# EAGLE library part CSAC (library ruark2)
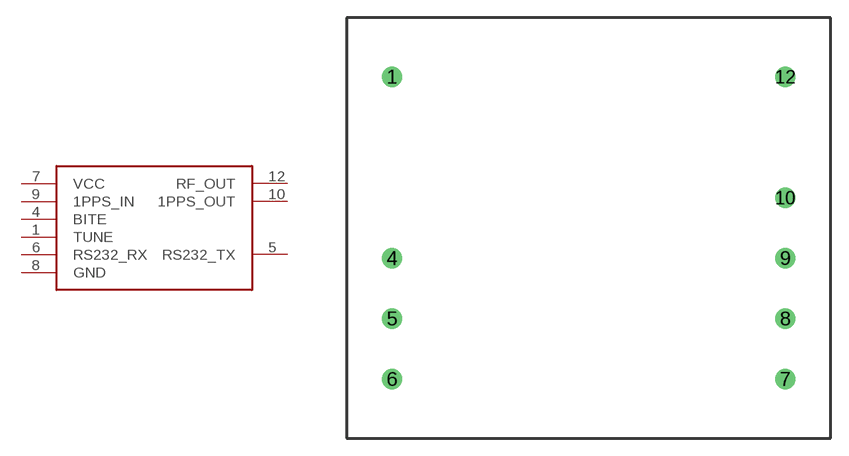
[diagram p193: symbol with the pads of CSAC; footprint CSAC]

Designator prefix -

## CSAC  [CSAC]
1  TUNE
4  BITE
5  RS232_TX
6  RS232_RX
7  VCC
8  GND
9  1PPS_IN
10  1PPS_OUT
12  RF_OUT

## Footprint CSAC (pad centres in mm)
drill 1.143: 1 0,0; 4 0,-15.24; 5 0,-20.32; 6 0,-25.4; 7 33.02,-25.4; 8 33.02,-20.32; 9 33.02,-15.24; 10 33.02,-10.16; 12 33.02,0